# Altium footprint library Altium Example Master PCB Library End.PcbLib: 217 footprints (part 6 of 14)
Each footprint in its own frame and in the unit in brackets; x right, y up, seen from the top. Pads: shape width x height; smd on the part's side, far side on the other; paste and mask are expansions set on the pad; w line width, h text height; cw(c..) or ccw(c..) is an arc to the next point about the centre after c.
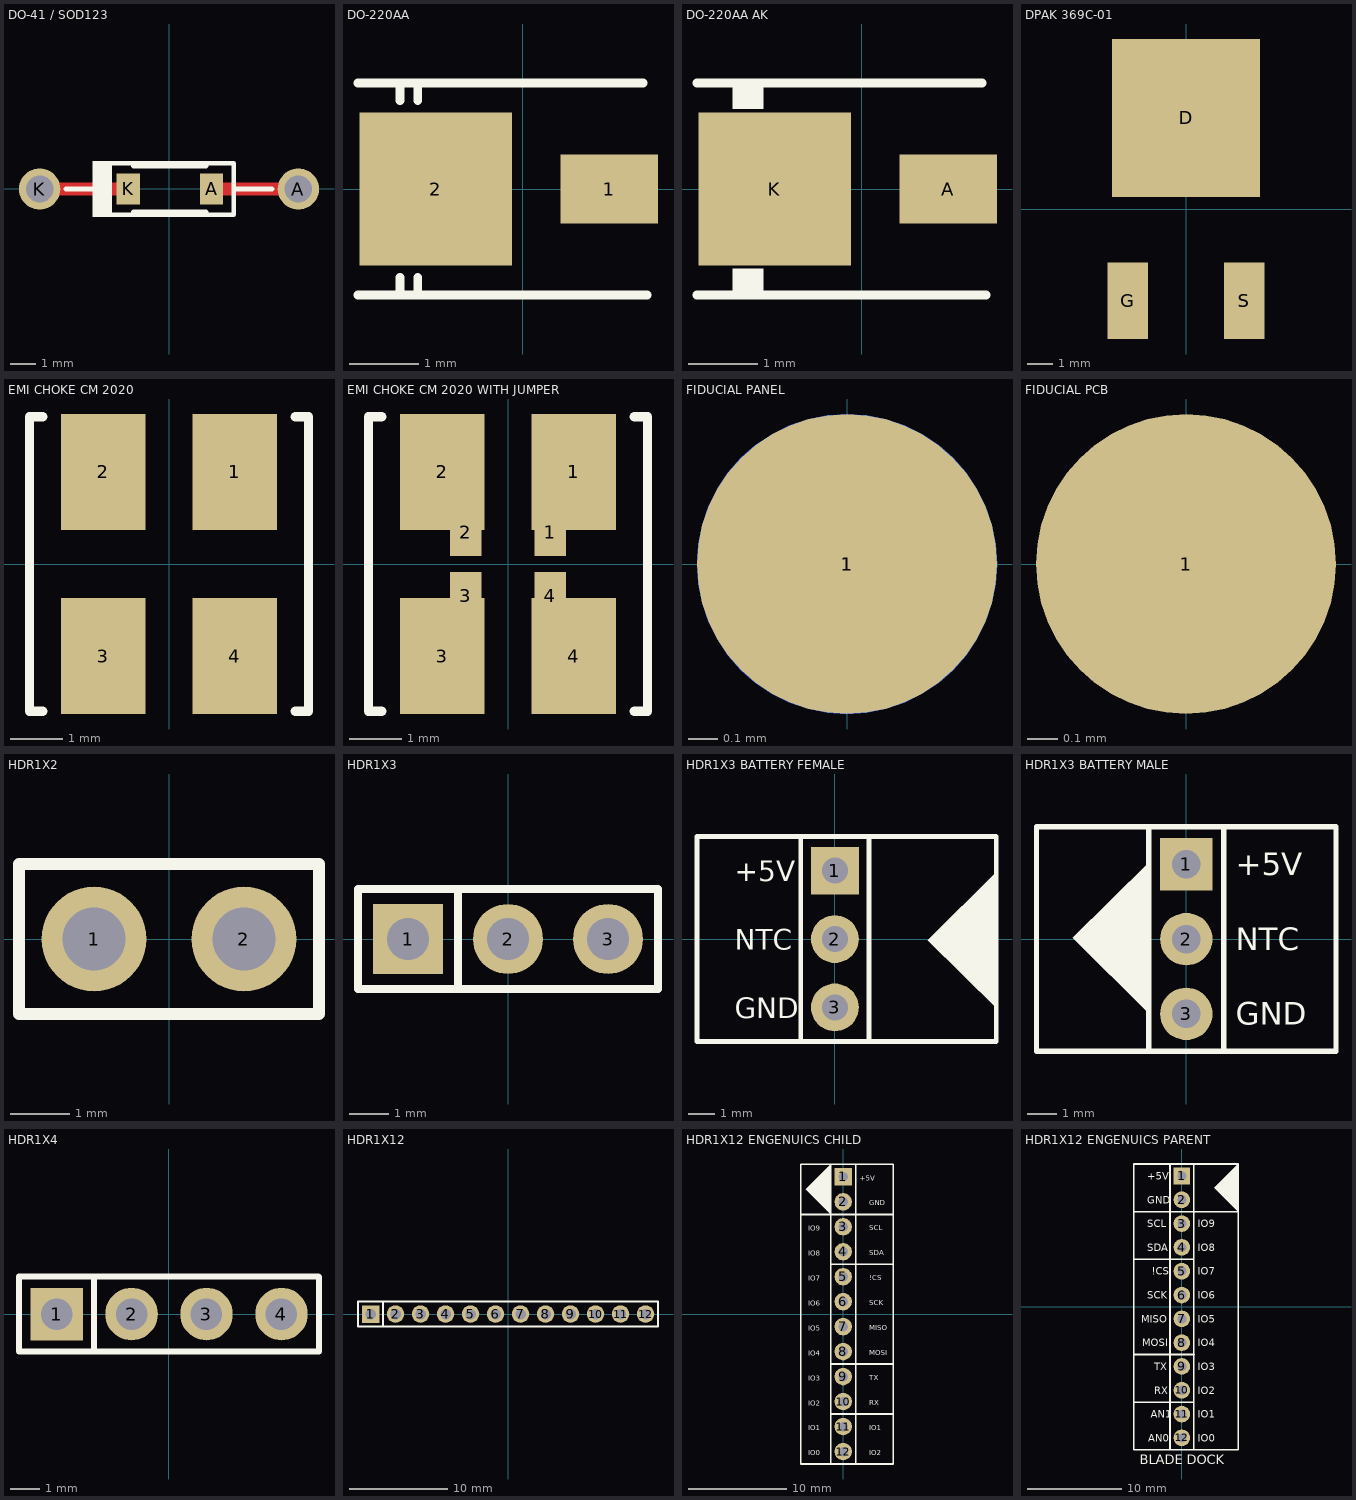
[diagram p5: the footprints below, top view; thin cyan lines are the x and y axes]

## DO-41 / SOD123 [mil]
pads (4):
  rect 36x48 smd: A(65.86,0.06) K(-63.14,0.06)
  round 64 hole 42: A(200,-0.06) K(-200,-0.06)
Top Layer:
  lines w7: -63.27,-0.06 -63.14,0.06
  lines w20: -200,-0.06 -63.27,-0.06 ; 65.86,0.06 199.87,0.06 200,-0.06
Top Overlay:
  rectangle: -118.31,-43.37 -88.31,43.24
  lines w7: -160,-0.06 -100,-0.06 ; 100,-0.06 160,-0.06 ; -100,-40.06 -100,39.94 100,39.94 100,-40.06 -100,-40.06
  lines w8: -54.64,-35.44 57.36,-35.44 ; -54.64,35.56 57.36,35.56 ; -34.07,35.56 -30.14,35.56

## DO-220AA [mm]
pads (2):
  rect 1.4x1 smd: 1(1.25,0)
  rect 2.2x2.2 smd: 2(-1.25,0)
Top Overlay:
  lines w0.127: -2.368,-1.528 1.032,-1.528 ; -2.368,1.528 1.032,1.528 1.732,1.528 ; -1.762,-1.528 -1.762,-1.274 ; -1.762,1.274 -1.762,1.528 ; -1.508,-1.528 -1.508,-1.274 ; -1.508,1.274 -1.508,1.528 ; 0.95,-1.528 1.794,-1.528

## DO-220AA AK [mm]
pads (2):
  rect 1.4x1 smd: A(1.25,0)
  rect 2.2x2.2 smd: K(-1.25,0)
Top Overlay:
  rectangle: -1.86,-1.528 -1.411,-1.147
  rectangle: -1.86,1.153 -1.411,1.528
  lines w0.127: -2.368,-1.528 1.032,-1.528 ; -2.368,1.528 1.032,1.528 1.732,1.528 ; -1.762,-1.528 -1.762,-1.274 ; -1.762,1.274 -1.762,1.528 ; -1.508,-1.528 -1.508,-1.274 ; -1.508,1.274 -1.508,1.528 ; 0.95,-1.528 1.794,-1.528

## DPAK 369C-01 [mm]
pads (3):
  rect 5.8x6.2 smd: D(0,3.59)
  rect 1.6x3 smd: G(-2.286,-3.59) S(2.286,-3.59)

## EMI CHOKE CM 2020 [mm]
pads (4):
  rect 1.6x2.2 smd: 1(1.25,1.75) 2(-1.25,1.75) 3(-1.25,-1.75) 4(1.25,-1.75)
Top Overlay:
  lines w0.178: -2.4,-2.8 -2.65,-2.8 -2.65,2.8 -2.4,2.8 ; 2.4,-2.8 2.65,-2.8 2.65,2.8 2.4,2.8

## EMI CHOKE CM 2020 WITH JUMPER [mm]
pads (8):
  rect 0.6x0.9 smd: 1(0.8,0.6) 2(-0.8,0.6) 3(-0.8,-0.6) 4(0.8,-0.6)
  rect 1.6x2.2 smd: 1(1.25,1.75) 2(-1.25,1.75) 3(-1.25,-1.75) 4(1.25,-1.75)
Top Overlay:
  lines w0.178: -2.4,-2.8 -2.65,-2.8 -2.65,2.8 -2.4,2.8 ; 2.4,-2.8 2.65,-2.8 2.65,2.8 2.4,2.8

## FIDUCIAL PANEL [mil]
pads (2):
  round 40 smd paste-100 mask+30: 1(0,0)
  round 40 smd far side paste-100 mask+30: 1(0,0)

## FIDUCIAL PCB [mm]
pads (1):
  round 1 smd paste-2.54 mask+0.102: 1(0,0)

## HDR1X2 [mil]
pads (2):
  round 70 hole 42: 1(-50,0) 2(50,0)
Top Overlay:
  lines w8: -100,-50 -100,50 100,50 100,-50 -100,-50

## HDR1X3 [mil]
pads (3):
  rect 70x70 hole 42: 1(-100,0)
  round 70 hole 42: 2(0,0) 3(100,0)
Top Overlay:
  lines w8: -50,-50 -50,50 ; -150,-50 150,-50 150,50 -150,50 -150,-50

## HDR1X3 BATTERY FEMALE [mil]
pads (3):
  rect 70x70 hole 38: 1(0,100)
  round 70 hole 38: 2(0,0) 3(0,-100)
Top Overlay:
  region: 237.2,99.02 237.2,-101.77 135.83,-1.38
  lines w7: -201.77,-150 -201.77,150 ; -200,-150 236.22,-150 236.22,150.2 -200,150 ; -50,-150 -50,150 ; 50,-150 50,150
  text "+5V" at -146.27,84.25 h30
  text "NTC" at -146.27,-15.75 h30
  text "GND" at -146.27,-115.75 h30

## HDR1X3 BATTERY MALE [mil]
pads (3):
  rect 70x70 hole 38: 1(0,100)
  round 70 hole 38: 2(0,0) 3(0,-100)
Top Overlay:
  region: -50.2,101.97 -50.2,-98.82 -151.57,1.57
  lines w7: -50,-150 -50,150 ; 50,-150 50,150 ; -200,-150 200,-150 200,150 -200,150 -200,-150
  text "NTC" at 65.75,-14.76 h30
  text "+5V" at 65.75,85.24 h30
  text "GND" at 65.75,-114.76 h30
Bottom Overlay:
  region: -50.98,102.17 -50.98,-98.62 -152.36,1.77
  lines w7: -50.79,-149.8 -50.79,150.2 ; 49.21,-149.8 49.21,150.2 ; -200.79,-149.8 -200.79,150.2 199.21,150.2 199.21,-149.8 -200.79,-149.8
  text "GND" at 170,-114.57 h30
  text "+5V" at 170,85.43 h30
  text "NTC" at 170,-14.57 h30

## HDR1X4 [mil]
pads (4):
  rect 70x70 hole 42: 1(-150,0)
  round 70 hole 42: 2(-50,0) 3(50,0) 4(150,0)
Top Overlay:
  lines w8: -100,-50 -100,50 ; -200,-50 -200,50 199.61,50 200,49.61 200,-50 -200,-50

## HDR1X12 [mil]
pads (12):
  rect 70x70 hole 42: 1(-550,0)
  round 70 hole 42: 2(-450,0) 3(-350,0) 4(-250,0) 5(-150,0) 6(-50,0) 7(50,0) 8(150,0) 9(250,0) 10(350,0) 11(450,0) 12(550,0)
Top Overlay:
  lines w8: -500,-50 -500,50 ; -600,-50 -600,50 600,50 600,-50 -600,-50

## HDR1X12 ENGENUICS CHILD [mil]
pads (12):
  rect 70x70 hole 38: 1(0,550)
  round 70 hole 38: 2(0,450) 3(0,350) 4(0,250) 5(0,150) 6(0,50) 7(0,-50) 8(0,-150) 9(0,-250) 10(0,-350) 11(0,-450) 12(0,-550)
Top Overlay:
  region: -49.21,601.18 -49.21,400.39 -150.59,500.79
  lines w7: -170,399.41 200,399.41 ; -50,-600 -50,600 ; -48.23,-400 200,-400 ; -48.23,-200 200,-200 ; -48.23,200 200,200 ; 50,-600 50,600 ; -170,-600 200,-600 200,600 -170,600 -170,-600
  text "TX" at 105,-264.76 h20
  text "RX" at 105,-364.76 h20
  text "!CS" at 105,135.24 h20
  text "IO1" at 105,-464.76 h20
  text "IO2" at 105,-564.76 h20
  text "SCK" at 105,35.24 h20
  text "GND" at 105,435.24 h20
  text "+5V" at 65.75,535.24 h20
  text "SCL" at 105,335.24 h20
  text "SDA" at 105,235.24 h20
  text "MOSI" at 105,-164.76 h20
  text "MISO" at 105,-64.76 h20
  text "IO0" at -140,-565.75 h20
  text "IO1" at -140,-465.75 h20
  text "IO2" at -140,-365.75 h20
  text "IO3" at -140,-265.75 h20
  text "IO4" at -140,-165.75 h20
  text "IO5" at -140,-65.75 h20
  text "IO6" at -140,34.25 h20
  text "IO7" at -140,134.25 h20
  text "IO8" at -140,234.25 h20
  text "IO9" at -140,334.25 h20
Bottom Overlay:
  region: -49.02,601.38 -49.02,400.59 -150.39,500.98
  lines w7: -170,399.61 200.2,399.61 ; -49.8,-599.8 -49.8,600.2 ; -48.03,-399.8 200.2,-399.8 ; -48.03,-199.8 200.2,-199.8 ; -48.03,200.2 200.2,200.2 ; 50.2,-599.8 50.2,600.2 ; -170,-599.8 -170,600.2 200.2,600.2 200.2,-599.8 -170,-599.8
  text "IO9" at -90,334.45 h20
  text "IO8" at -90,234.45 h20
  text "IO7" at -90,134.45 h20
  text "IO6" at -90,34.45 h20
  text "IO5" at -90,-65.55 h20
  text "IO4" at -90,-165.55 h20
  text "IO3" at -90,-265.55 h20
  text "IO2" at -90,-365.55 h20
  text "IO1" at -90,-465.55 h20
  text "IO0" at -90,-565.55 h20
  text "MISO" at 150,-64.57 h20
  text "MOSI" at 150,-164.57 h20
  text "SDA" at 150,235.43 h20
  text "SCL" at 150,335.43 h20
  text "+5V" at 175,535.43 h20
  text "GND" at 150,435.43 h20
  text "SCK" at 150,35.43 h20
  text "IO2" at 150,-564.57 h20
  text "IO1" at 150,-464.57 h20
  text "!CS" at 150,135.43 h20
  text "RX" at 150,-364.57 h20
  text "TX" at 150,-264.57 h20

## HDR1X12 ENGENUICS PARENT [mil]
pads (12):
  rect 70x70 hole 38: 1(0,550)
  round 70 hole 38: 2(0,450) 3(0,350) 4(0,250) 5(0,150) 6(0,50) 7(0,-50) 8(0,-150) 9(0,-250) 10(0,-350) 11(0,-450) 12(0,-550)
Top Overlay:
  region: 236.22,600.2 236.22,399.41 134.84,499.8
  lines w7: -201.77,-600 -201.77,600 ; -200,-600 236.22,-600 236.22,600.2 -200,600 ; -200,-400 50,-400 ; -200,-200 50,-200 ; -200,200 50,200 ; -200,400 236.22,400 ; -50,-600 -50,600 ; 50,-600 50,600
  lines w8: -200,-200 50,-200
  text "IO9" at 67.39,334.25 h30
  text "IO8" at 67.39,234.25 h30
  text "IO7" at 67.39,134.25 h30
  text "IO6" at 67.39,34.25 h30
  text "IO5" at 67.39,-65.75 h30
  text "IO4" at 67.39,-165.75 h30
  text "IO3" at 67.39,-265.75 h30
  text "IO2" at 67.39,-365.75 h30
  text "IO1" at 67.39,-465.75 h30
  text "IO0" at 67.39,-565.75 h30
  text "+5V" at -146.27,534.25 h30
  text "GND" at -146.27,434.25 h30
  text "SCL" at -146.27,334.25 h30
  text "SDA" at -146.27,234.25 h30
  text "!CS" at -126.27,134.25 h30
  text "SCK" at -146.27,34.25 h30
  text "MISO" at -171.26,-65.75 h30
  text "MOSI" at -166.26,-165.75 h30
  text "TX" at -116.28,-265.75 h30
  text "RX" at -116.28,-365.75 h30
  text "AN1" at -131.27,-465.75 h30
  text "AN0" at -141.27,-565.75 h30
  text "BLADE DOCK" at -177.17,-659.65 h40
Bottom Overlay:
  region: 236.22,600.2 236.22,399.41 134.84,499.8
  lines w7: -201.77,-600 -201.77,600 ; -200,-600 236.22,-600 236.22,600.2 -200,600 ; -200,-400 50,-400 ; -200,200 50,200 ; -200,400 236.22,400 ; -50,-600 -50,600 ; 50,-600 50,600
  lines w8: -200,-200 50,-200
  text "AN0" at -66.93,-565.16 h30
  text "AN1" at -65.94,-465.75 h30
  text "RX" at -66.93,-365.35 h30
  text "TX" at -64.11,-266.73 h30
  text "MOSI" at -69.88,-165.55 h30
  text "MISO" at -65.94,-65.75 h30
  text "SCK" at -66.54,34.25 h30
  text "!CS" at -66.93,133.66 h30
  text "SDA" at -66.54,234.25 h30
  text "SCL" at -66.54,334.25 h30
  text "GND" at -66.54,434.25 h30
  text "+5V" at -66.54,534.25 h30
  text "IO0" at 146.65,-566.14 h30
  text "IO1" at 137.8,-465.75 h30
  text "IO2" at 147.12,-365.75 h30
  text "IO3" at 146.65,-265.94 h30
  text "IO4" at 146.65,-164.57 h30
  text "IO5" at 147.12,-65.75 h30
  text "IO6" at 147.12,34.25 h30
  text "IO7" at 147.12,134.25 h30
  text "IO8" at 147.12,234.25 h30
  text "IO9" at 147.12,334.25 h30